# EAGLE library part SCHRACK_POWER_PCB_RELAY_RZ_16A_NO (library Nwazet.Go)
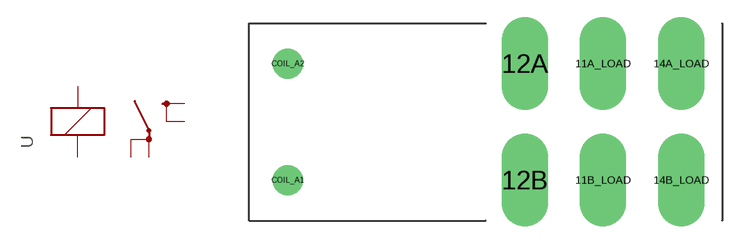
[diagram p11: symbol with the pads of SCHRACK_POWER_PCB_RELAY_RZ_16A; footprint SCHRACK_POWER_PCB_RELAY_RZ_16A]

Designator prefix -

## SCHRACK_POWER_PCB_RELAY_RZ_16A_NO  [SCHRACK_POWER_PCB_RELAY_RZ_16A]
11A_LOAD  11A_LOAD  pas
11B_LOAD  11B_LOAD  pas
14A_LOAD  14A_LOAD  pas
14B_LOAD  14B_LOAD  pas
COIL_A1  COIL_A1  pas
COIL_A2  COIL_A2  pas

## Footprint SCHRACK_POWER_PCB_RELAY_RZ_16A (pad centres in mm)
drill 1.3 pad 3 long: 11A_LOAD 0,3.75; 11B_LOAD 0,-3.75; 12A -5.04,3.75; 12B -5.04,-3.75; 14A_LOAD 5.04,3.75; 14B_LOAD 5.04,-3.75
drill 1.3: COIL_A1 -20.3,-3.75; COIL_A2 -20.3,3.75